# Altium footprint library SOP-14.PcbLib: 1 footprints
Each footprint in its own frame and in the unit in brackets; x right, y up, seen from the top. Pads: shape width x height; smd on the part's side, far side on the other; paste and mask are expansions set on the pad; w line width, h text height; cw(c..) or ccw(c..) is an arc to the next point about the centre after c.
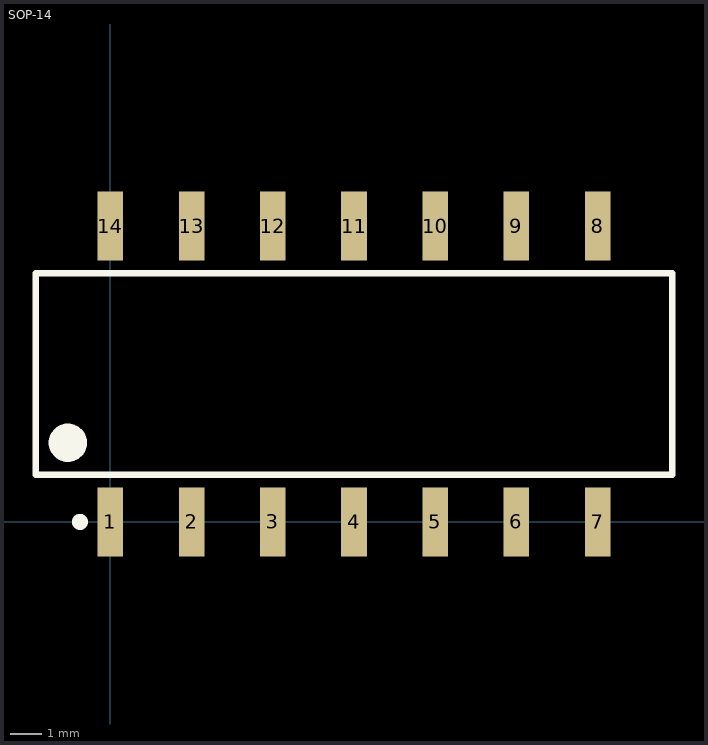
[diagram p0: the footprint, top view; thin cyan lines are the x and y axes]

## SOP-14 [mm] "SOP, 14-Leads, Body 19,90x6,90mm, Pitch 2,54mm, IPC Medium Density"
height 6
pads (14):
  rect 0.8x2.15 smd: 1(0,0) 2(2.54,0) 3(5.08,0) 4(7.62,0) 5(10.16,0) 6(12.7,0) 7(15.24,0) 8(15.24,9.25) 9(12.7,9.25) 10(10.16,9.25) 11(7.62,9.25) 12(5.08,9.25) 13(2.54,9.25) 14(0,9.25)
Top Overlay:
  circle w0.6: c-1.33,2.475 r0.3
  circle w0.25: c-0.95,0 r0.125
  lines w0.2: -2.33,1.475 -2.33,7.775 17.57,7.775 17.57,1.475 -2.33,1.475
3D body "SOP-14_.step": height 6, standoff 0, extent -2.33,-0.525 17.57,9.775